# Altium schematic symbol library Other.SchLib: 12 symbols
Pins are listed as number, name and electrical type; pins without a type are passive.

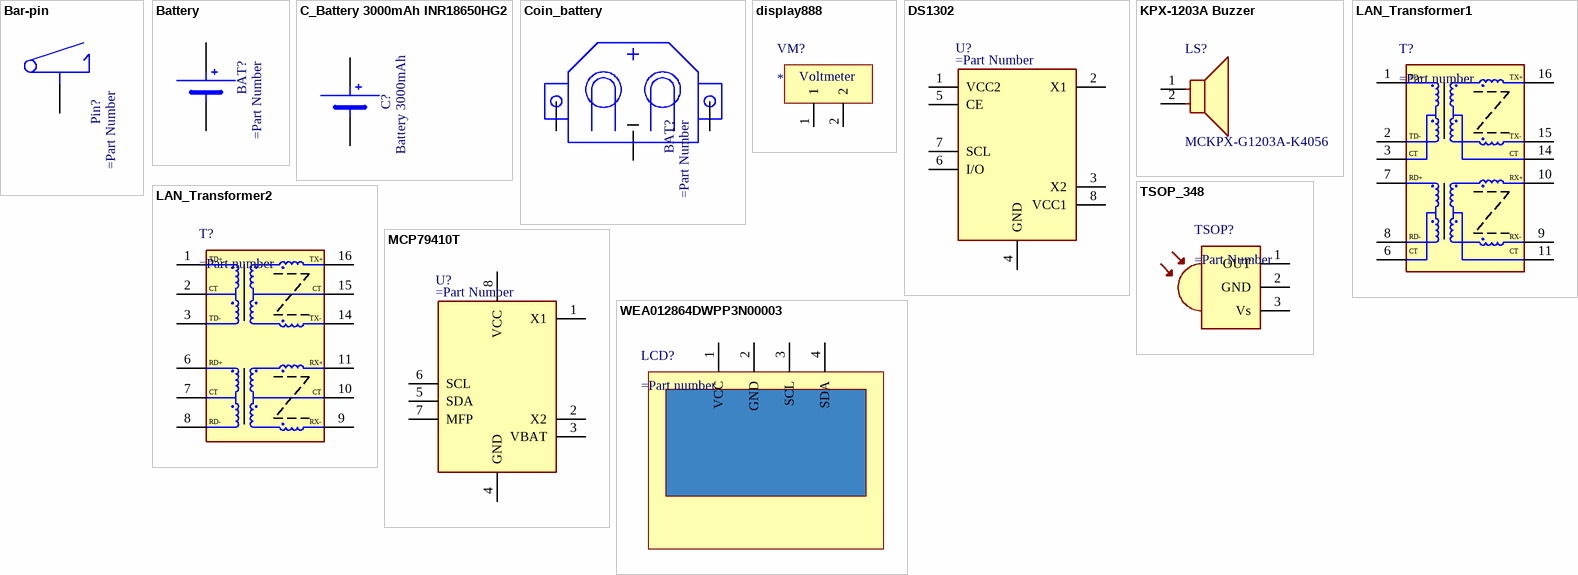
[diagram p0: symbols Bar-pin to WEA012864DWPP3N00003]

## Bar-pin
designator Pin?
pins: 1

## Battery
designator BAT?
pins: 1, 2

## C_Battery 3000mAh INR18650HG2
designator C?, comment Battery 3000mAh
pins: 1, 2

## Coin_battery
designator BAT?
pins: 1, 2, 3 1

## display888
designator VM?
pins: 1, 2
text: Voltmeter

## DS1302
designator U?
pins: 1 VCC2, 2 X1, 3 X2, 4 GND, 5 CE, 6 I/O, 7 SCL, 8 VCC1

## KPX-1203A Buzzer
designator LS?, comment MCKPX-G1203A-K4056
pins: 1 C, 2 A

## LAN_Transformer1
designator T?
pins: 1 TD+, 2 TD-, 3 CT, 6 CT, 7 RD+, 8 RD-, 9 RX-, 10 RX+, 11 CT, 14 CT, 15 TX-, 16 TX+

## LAN_Transformer2
designator T?
pins: 1 TD+, 2 CT, 3 TD-, 6 RD+, 7 CT, 8 RD-, 9 RX-, 10 CT, 11 RX+, 14 TX-, 15 CT, 16 TX+

## MCP79410T
designator U?
pins: 1 X1, 2 X2, 3 VBAT, 4 GND, 5 SDA, 6 SCL, 7 MFP, 8 VCC

## TSOP_348
designator TSOP?
pins: 1 OUT, 2 GND, 3 Vs

## WEA012864DWPP3N00003
designator LCD?
pins: 1 VCC, 2 GND, 3 SCL, 4 SDA